# Altium footprint library RLC.PcbLib: 144 footprints (part 5 of 9)
Each footprint in its own frame and in the unit in brackets; x right, y up, seen from the top. Pads: shape width x height; smd on the part's side, far side on the other; paste and mask are expansions set on the pad; w line width, h text height; cw(c..) or ccw(c..) is an arc to the next point about the centre after c.
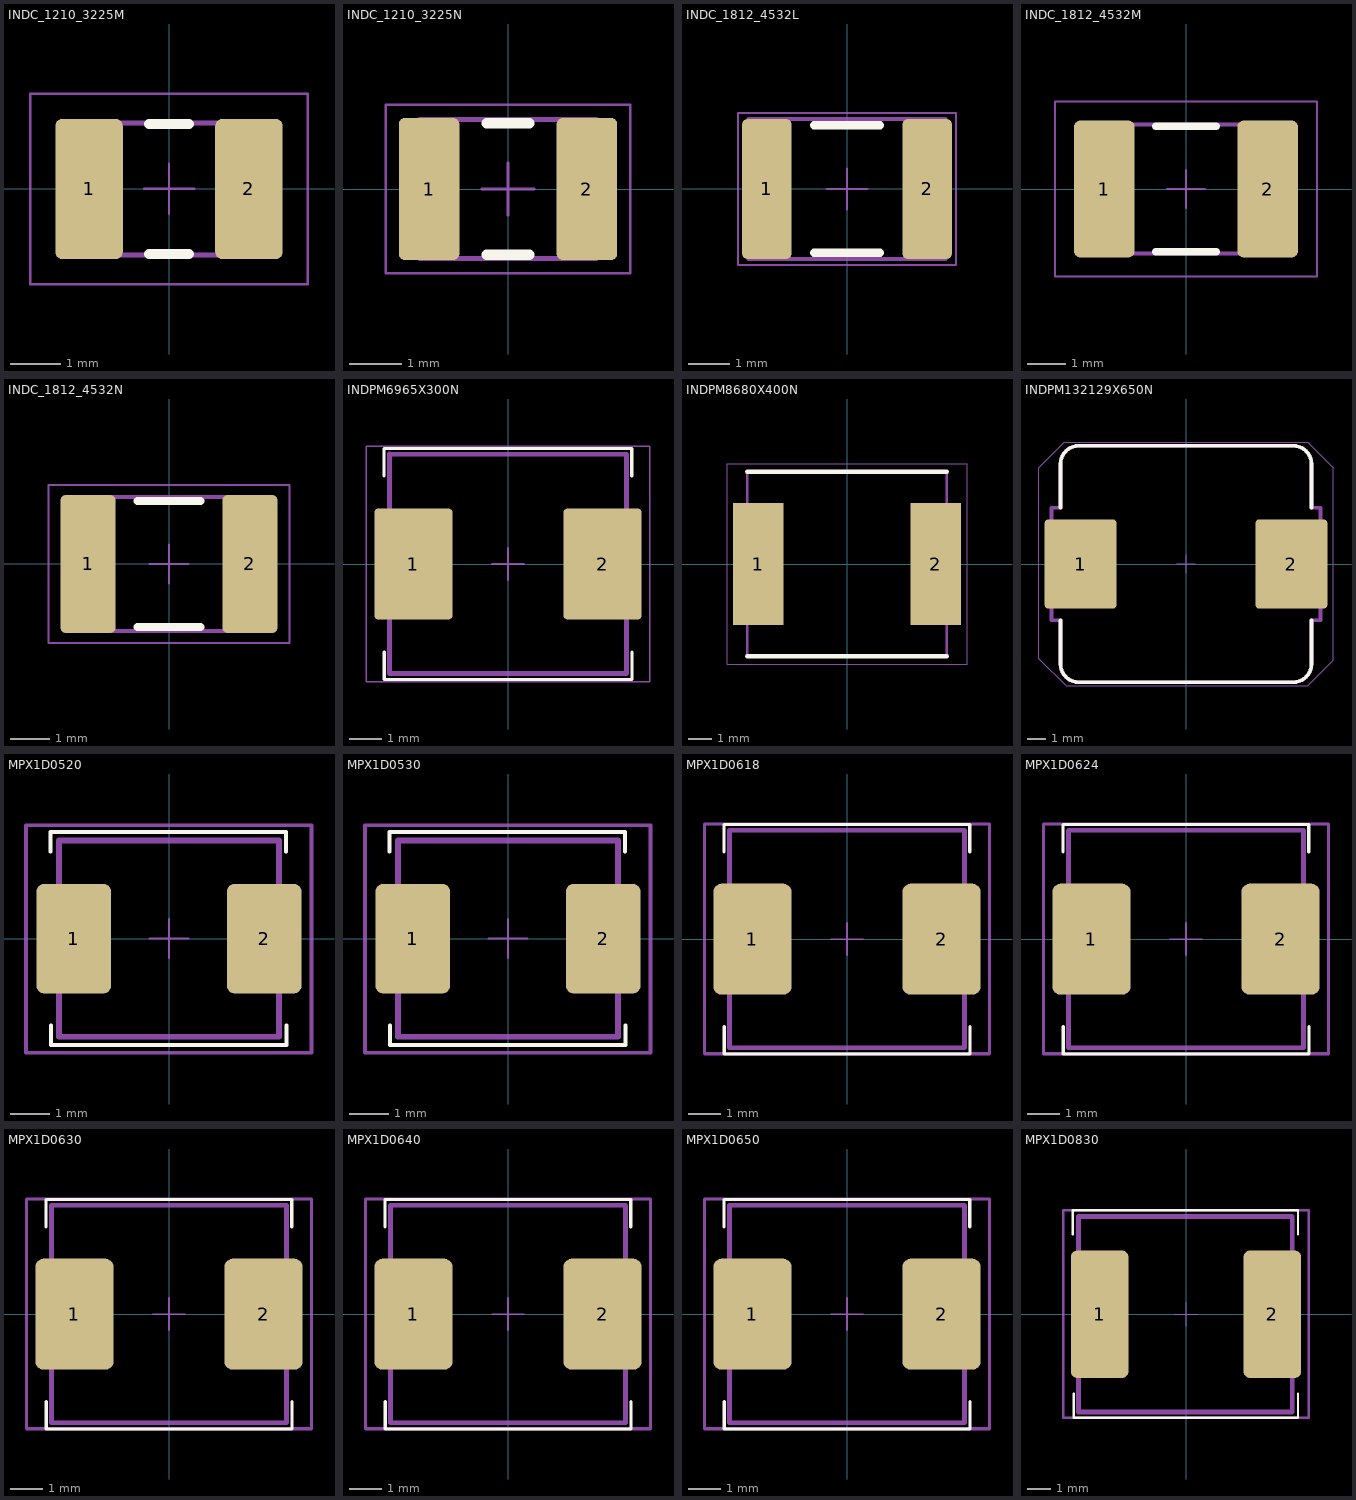
[diagram p4: the footprints below, top view; thin cyan lines are the x and y axes]

## INDC_1210_3225M [mm] "Chip Inductor, Body 3.2x2.5mm, IPC Low Density"
height 0.71
pads (2):
  rrect20% 1.35x2.8 smd: 1(-1.6,0) 2(1.6,0)
Top Overlay:
  lines w0.2: -0.4,-1.3 0.4,-1.3 ; -0.4,1.3 0.4,1.3
Top Designator:
  text ".Designator" at -2.999,1.8 h0.6
Top Assembly:
  lines w0.1: -1.675,-1.32 1.675,-1.32 1.675,1.32 -1.675,1.32 -1.675,-1.32
Top Courtyard:
  lines w0.05: -0.5,0 0.5,0 ; 0,-0.5 0,0.5 ; -2.775,-1.9 2.775,-1.9 2.775,1.9 -2.775,1.9 -2.775,-1.9

## INDC_1210_3225N [mm] "Chip Inductor, Body 3.2x2.5mm, IPC Medium Density"
height 0.71
pads (2):
  rrect20% 1.15x2.7 smd: 1(-1.5,0) 2(1.5,0)
Top Overlay:
  lines w0.2: -0.4,-1.25 0.4,-1.25 ; -0.4,1.25 0.4,1.25
Top Designator:
  text ".Designator" at -2.999,1.8 h0.6
Top Assembly:
  lines w0.1: -1.675,-1.32 -1.675,1.32 1.675,1.32 1.675,-1.32 -1.675,-1.32
Top Courtyard:
  lines w0.05: -0.5,0 0.5,0 ; 0,-0.5 0,0.5 ; -2.325,-1.6 -2.325,1.6 2.325,1.6 2.325,-1.6 -2.325,-1.6

## INDC_1812_4532L [mm] "Chip Inductor, Body 4.5x3.2mm, IPC High Density"
height 0.71
pads (2):
  rrect20% 1.2x3.4 smd: 1(-1.95,0) 2(1.95,0)
Top Overlay:
  lines w0.2: -0.8,-1.55 0.8,-1.55 ; -0.8,1.55 0.8,1.55
Top Designator:
  text ".Designator" at -2.999,2.2 h0.6
Top Assembly:
  lines w0.1: -2.4,-1.7 -2.4,1.7 2.4,1.7 2.4,-1.7 -2.4,-1.7
Top Courtyard:
  lines w0.05: -0.5,0 0.5,0 ; 0,-0.5 0,0.5 ; -2.65,-1.85 -2.65,1.85 2.65,1.85 2.65,-1.85 -2.65,-1.85

## INDC_1812_4532M [mm] "Chip Inductor, Body 4.5x3.2mm, IPC Low Density"
height 0.71
pads (2):
  rrect20% 1.6x3.6 smd: 1(-2.15,0) 2(2.15,0)
Top Overlay:
  lines w0.2: -0.8,-1.65 0.8,-1.65 ; -0.8,1.65 0.8,1.65
Top Designator:
  text ".Designator" at -2.999,2.2 h0.6
Top Assembly:
  lines w0.1: -2.4,-1.7 -2.4,1.7 2.4,1.7 2.4,-1.7 -2.4,-1.7
Top Courtyard:
  lines w0.05: -0.5,0 0.5,0 ; 0,-0.5 0,0.5 ; -3.45,-2.3 -3.45,2.3 3.45,2.3 3.45,-2.3 -3.45,-2.3

## INDC_1812_4532N [mm] "Chip Inductor, Body 4.5x3.2mm, IPC Medium Density"
height 0.71
pads (2):
  rrect20% 1.4x3.5 smd: 1(-2.05,0) 2(2.05,0)
Top Overlay:
  lines w0.2: -0.8,-1.6 0.8,-1.6 ; -0.8,1.6 0.8,1.6
Top Designator:
  text ".Designator" at -2.999,2.2 h0.6
Top Assembly:
  lines w0.1: -2.4,-1.7 -2.4,1.7 2.4,1.7 2.4,-1.7 -2.4,-1.7
Top Courtyard:
  lines w0.05: -0.5,0 0.5,0 ; 0,-0.5 0,0.5 ; -3.05,-2 -3.05,2 3.05,2 3.05,-2 -3.05,-2

## INDPM6965X300N [mm] "SMD 6.86*6.47*3"
height 3
pads (2):
  rrect10% 2.4x3.4 smd: 1(-2.9,0) 2(2.9,0)
Top Overlay:
  lines w0.1: -3.8,2.7 -3.8,3.544 3.795,3.544 3.795,2.7 ; -3.795,-2.7 -3.795,-3.544 3.8,-3.544 3.8,-2.7
Top Designator:
  text ".Designator" at -2.999,4.2 h0.6
Top Assembly:
  lines w0.15: -3.631,3.369 -3.631,-3.353 3.636,-3.353 3.636,3.365 -3.628,3.365
Top Courtyard:
  lines w0.05: -0.5,0 0.5,0 ; 0,-0.5 0,0.5 ; -4.35,-3.612 4.35,-3.612 4.35,3.612 -4.35,3.612 -4.35,-3.612
3D body "IHLP2525CZER100M01.stp": height 2.89, standoff 0, extent -3.542,-3.331 3.535,3.339

## INDPM8680X400N [mm]
pads (2):
  rect 2.2x5.3 smd: 1(-3.85,0) 2(3.85,0)
Top Overlay:
  lines w0.2: -4.325,-4 4.325,-4 ; -4.325,4 4.325,4
Top Assembly:
  lines w0.1: -4.325,-4 -4.325,4 4.325,4 4.325,-4 -4.325,-4
Top Courtyard:
  lines w0.05: -5.2,-4.35 -5.2,4.35 5.2,4.35 5.2,-4.35 -5.2,-4.35
3D body "MPX1D0840L470.stp": height 4, standoff 0, extent -4.45,-4.1 4.45,4.1

## INDPM132129X650N [mm]
pads (2):
  rrect10% 3.95x4.9 smd: 1(-5.8,0) 2(5.8,0)
Top Overlay:
  lines w0.2: -6.9,-3.1 -6.9,-5.5 ccw(c-5.9,-5.5) -5.9,-6.5 5.9,-6.5 ccw(c5.9,-5.5) 6.9,-5.5 6.9,-3.1 ; -6.9,3.1 -6.9,5.5 cw(c-5.9,5.5) -5.9,6.5 5.9,6.5 cw(c5.9,5.5) 6.9,5.5 6.9,3.1
Top Designator:
  text ".Designator" at -5.799,7.1 h0.6
Top Assembly:
  lines w0.2: -7.4,-3.1 -6.9,-3.1 -6.9,-5.5 ccw(c-5.9,-5.5) -5.9,-6.5 5.9,-6.5 ccw(c5.9,-5.5) 6.9,-5.5 6.9,-3.1 7.4,-3.1 7.4,3.1 6.9,3.1 6.9,5.5 ccw(c5.9,5.5) 5.9,6.5 -5.9,6.5 ccw(c-5.9,5.5) -6.9,5.5 -6.9,3.1 -7.4,3.1 -7.4,-3.1
Top Courtyard:
  lines w0.05: -0.5,0 0.5,0 ; 0,-0.5 0,0.5 ; -8.1,-5.2 -8.1,5.3 -6.7,6.7 6.7,6.7 8.1,5.3 8.1,-5.3 6.7,-6.7 -6.6,-6.7 -8.1,-5.2
3D body "IHLP5050FDER2R2M01.stp": height 8.69, standoff 2.4, extent -6.653,-6.361 6.712,6.395

## MPX1D0520 [mm] "MPX1D0520 = 5x5x2.0 mm"
height 2
pads (2):
  rrect20% 1.905x2.79 smd: 1(-2.425,0) 2(2.425,0)
Top Overlay:
  lines w0.1: -3.016,2.22 -3.016,2.72 2.984,2.72 2.984,2.22 ; -3.006,-2.211 -3.006,-2.711 2.994,-2.711 2.994,-2.211
Top Designator:
  text ".Designator" at -3.099,3.4 h0.6
Top Assembly:
  lines w0.15: -2.8,-2.5 -2.8,2.5 2.8,2.5 2.8,-2.5 -2.8,-2.5
Top Courtyard:
  lines w0.05: -0.5,0 0.5,0 ; 0,-0.5 0,0.5
  lines w0.1: -3.64,-2.906 -3.64,2.887 3.628,2.887 3.628,-2.906 -3.64,-2.906
3D body "Inductor_SMD_AMPLF_0530.STEP": height 3.06, standoff 0.05, extent -2.8,-2.5 2.8,2.5

## MPX1D0530 [mm] "MPX1D0530 = 5x5x3.0 mm"
height 3
pads (2):
  rrect20% 1.905x2.79 smd: 1(-2.425,0) 2(2.425,0)
Top Overlay:
  lines w0.1: -3.016,2.22 -3.016,2.72 2.984,2.72 2.984,2.22 ; -3.006,-2.211 -3.006,-2.711 2.994,-2.711 2.994,-2.211
Top Designator:
  text ".Designator" at -3.099,3.4 h0.6
Top Assembly:
  lines w0.15: -2.8,-2.5 -2.8,2.5 2.8,2.5 2.8,-2.5 -2.8,-2.5
Top Courtyard:
  lines w0.05: -0.5,0 0.5,0 ; 0,-0.5 0,0.5
  lines w0.1: -3.64,-2.906 -3.64,2.887 3.628,2.887 3.628,-2.906 -3.64,-2.906
3D body "Inductor_SMD_AMPLF_0530.STEP": height 3.06, standoff 0.05, extent -2.8,-2.5 2.8,2.5

## MPX1D0618 [mil] "MPX1D0618 = 6x6x1.8 mm"
height 70.87
pads (2):
  rrect20% 95x135 smd: 1(-115,0) 2(115,0)
Top Overlay:
  lines w3.94: -149.61,106.3 -149.61,139.52 149.41,139.52 149.41,106.3 ; -149.41,-106.3 -149.41,-139.52 149.61,-139.52 149.61,-106.3
Top Designator:
  text ".Designator" at -118.07,165.36 h23.62
Top Assembly:
  lines w5.91: -142.97,132.62 -142.97,-132.01 143.17,-132.01 143.17,132.49 -142.84,132.49
Top Courtyard:
  lines w1.97: -19.69,0 19.68,0 ; 0,-19.69 0,19.68
  lines w3.94: -173.23,-139.42 173.23,-139.42 173.23,140.04 -173.23,140.04 -173.23,-139.42
3D body "Inductor_SMD_AMPLF_0620.STEP": height 81.1, standoff 1.97, extent -143.69,-131.89 143.7,131.89

## MPX1D0624 [mil] "MPX1D0624 = 6x6x2.4 mm"
height 94.49
pads (2):
  rrect20% 95x135 smd: 1(-115,0) 2(115,0)
Top Overlay:
  lines w3.94: -149.61,106.3 -149.61,139.52 149.41,139.52 149.41,106.3 ; -149.41,-106.3 -149.41,-139.52 149.61,-139.52 149.61,-106.3
Top Designator:
  text ".Designator" at -118.07,165.36 h23.62
Top Assembly:
  lines w5.91: -142.97,132.62 -142.97,-132.01 143.17,-132.01 143.17,132.49 -142.84,132.49
Top Courtyard:
  lines w1.97: -19.69,0 19.68,0 ; 0,-19.69 0,19.68
  lines w3.94: -173.23,-139.42 -173.23,140.04 173.23,140.04 173.23,-139.42 -173.23,-139.42
3D body "Inductor_SMD_AMPLF_0624.STEP": height 96.85, standoff 1.97, extent -143.69,-131.89 143.71,131.89

## MPX1D0630 [mil] "MPX1D0630 = 6x6x3.0 mm"
height 118.11
pads (2):
  rrect20% 95x135 smd: 1(-115,0) 2(115,0)
Top Overlay:
  lines w3.94: -149.61,106.3 -149.61,139.52 149.41,139.52 149.41,106.3 ; -149.41,-106.3 -149.41,-139.52 149.61,-139.52 149.61,-106.3
Top Designator:
  text ".Designator" at -118.07,165.36 h23.62
Top Assembly:
  lines w5.91: -142.97,132.62 -142.97,-132.01 143.17,-132.01 143.17,132.49 -142.84,132.49
Top Courtyard:
  lines w1.97: -19.69,0 19.68,0 ; 0,-19.69 0,19.68
  lines w3.94: -173.23,-139.42 -173.23,140.04 173.23,140.04 173.23,-139.42 -173.23,-139.42
3D body "Inductor_SMD_AMPLF_0630.STEP": height 120.47, standoff 1.97, extent -143.69,-131.89 143.7,131.89

## MPX1D0640 [mil] "MPX1D0640 = 6x6x4.0 mm"
height 157.48
pads (2):
  rrect20% 95x135 smd: 1(-115,0) 2(115,0)
Top Overlay:
  lines w3.94: -149.61,106.3 -149.61,139.52 149.41,139.52 149.41,106.3 ; -149.41,-106.3 -149.41,-139.52 149.61,-139.52 149.61,-106.3
Top Designator:
  text ".Designator" at -118.07,165.36 h23.62
Top Assembly:
  lines w5.91: -142.97,132.62 -142.97,-132.01 143.17,-132.01 143.17,132.49 -142.84,132.49
Top Courtyard:
  lines w1.97: -19.69,0 19.68,0 ; 0,-19.69 0,19.68
  lines w3.94: -173.23,-139.42 173.23,-139.42 173.23,140.04 -173.23,140.04 -173.23,-139.42
3D body "Inductor_SMD_AMPLF_0640.STEP": height 159.84, standoff 1.97, extent -139.75,-131.89 147.65,131.89

## MPX1D0650 [mil] "MPX1D0650 = 6x6x5.0 mm"
height 196.85
pads (2):
  rrect20% 95x135 smd: 1(-115,0) 2(115,0)
Top Overlay:
  lines w3.94: -149.61,106.3 -149.61,139.52 149.41,139.52 149.41,106.3 ; -149.41,-106.3 -149.41,-139.52 149.61,-139.52 149.61,-106.3
Top Designator:
  text ".Designator" at -118.07,165.36 h23.62
Top Assembly:
  lines w5.91: -142.97,132.62 -142.97,-132.01 143.17,-132.01 143.17,132.49 -142.84,132.49
Top Courtyard:
  lines w1.97: -19.69,0 19.68,0 ; 0,-19.69 0,19.68
  lines w3.94: -173.23,-139.42 173.23,-139.42 173.23,140.04 -173.23,140.04 -173.23,-139.42
3D body "Inductor_SMD_AMPLF_0650.STEP": height 199.21, standoff 1.97, extent -143.69,-131.89 143.71,131.89

## MPX1D0830 [mil] "MPX1D0830 = 8x8x3.0 mm"
height 118.11
pads (2):
  rrect20% 95x210 smd: 1(-142.52,0) 2(142.52,0)
Top Overlay:
  lines w3.94: -186.78,131.97 -186.78,171.34 184.75,171.34 184.75,131.97 ; -185.33,-131.21 -185.33,-170.58 184.85,-170.58 184.85,-131.21
Top Designator:
  text ".Designator" at -118.48,187.07 h23.62
Top Assembly:
  lines w7.87: -177.17,-161.42 -177.17,161.42 175.47,161.42 175.47,-161.42 -177.17,-161.42
Top Courtyard:
  lines w1.97: -19.69,0 19.68,0 ; 0,-19.69 0,19.68
  lines w3.94: -202.61,-170.63 202.34,-170.63 202.34,171.35 -202.61,171.35 -202.61,-170.63
3D body "MPX1D0840L470.stp": height 159.07, standoff 1.57, extent -175.19,-161.41 175.2,161.42